# EAGLE library part CONN_15-1 (library pel_molex)
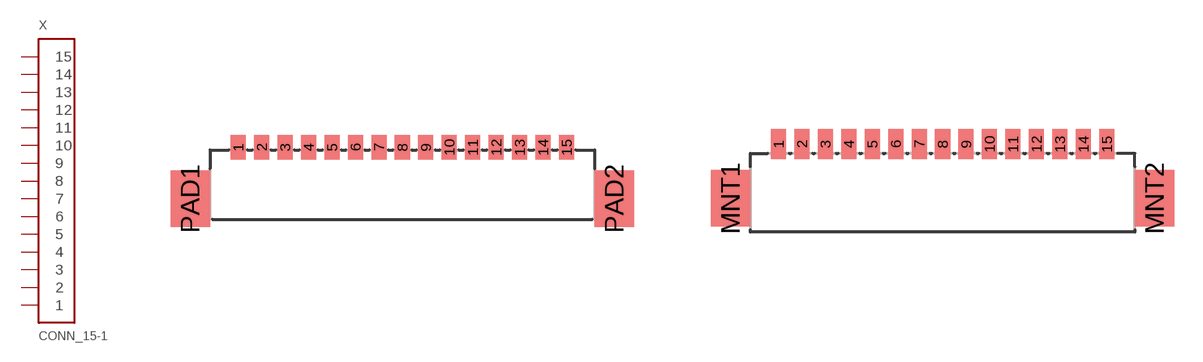
[diagram p3: symbol with the pads of PB-53398-15; footprints PB-53398-15, PB-53261-15]

Designator prefix X

## CONN_15-1-53398  [PB-53398-15]
1  1
2  2
3  3
4  4
5  5
6  6
7  7
8  8
9  9
10  10
11  11
12  12
13  13
14  14
15  15

## CONN_15-1-53261  [PB-53261-15]
Pads as for PB-53398-15

## CONN_15-1-53047  [PB-53047-15]
Pads as for PB-53398-15

## Footprint PB-53398-15 (pad centres in mm)
smd 0.8 x 1.3: 1 -8.75,1.25; 2 -7.5,1.25; 3 -6.25,1.25; 4 -5,1.25; 5 -3.75,1.25; 6 -2.5,1.25; 7 -1.25,1.25; 8 0,1.25; 9 1.25,1.25; 10 2.5,1.25; 11 3.75,1.25; 12 5,1.25; 13 6.25,1.25; 14 7.5,1.25; 15 8.75,1.25
smd 2.1 x 3: PAD1 -11.3,-1.5; PAD2 11.3,-1.5

## Footprint PB-53261-15 (pad centres in mm)
smd 0.8 x 1.6: 1 -8.75,1.1; 2 -7.5,1.1; 3 -6.25,1.1; 4 -5,1.1; 5 -3.75,1.1; 6 -2.5,1.1; 7 -1.25,1.1; 8 0,1.1; 9 1.25,1.1; 10 2.5,1.1; 11 3.75,1.1; 12 5,1.1; 13 6.25,1.1; 14 7.5,1.1; 15 8.75,1.1
smd 2.1 x 3: MNT1 -11.3,-1.8; MNT2 11.3,-1.8

## Footprint PB-53047-15 (pad centres in mm)
drill 0.5: 1 -8.75,0; 2 -7.5,0; 3 -6.25,0; 4 -5,0; 5 -3.75,0; 6 -2.5,0; 7 -1.25,0; 8 0,0; 9 1.25,0; 10 2.5,0; 11 3.75,0; 12 5,0; 13 6.25,0; 14 7.5,0; 15 8.75,0